# EAGLE library part L3GD20 (library zortness)
L3GD20 3-Axis Gyro I2C or SPI communication DigKey <http://www.digikey.com/product-detail/en/L3GD20TR/497-12081-1-ND/2793125>
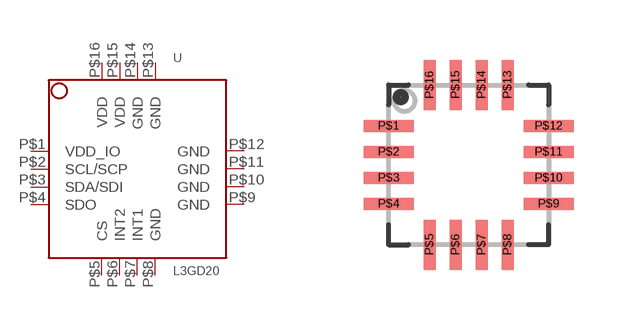
[diagram p2: symbol with the pads of LGA16-4X4; footprint LGA16-4X4]

Designator prefix U

## L3GD20  [LGA16-4X4]
P$1  VDD_IO  pwr
P$2  SCL/SCP
P$3  SDA/SDI
P$4  SDO
P$5  CS  in
P$6  INT2
P$7  INT1
P$8  GND  pwr
P$9  GND  pwr
P$10  GND  pwr
P$11  GND  pwr
P$12  GND  pwr
P$13  GND  pwr
P$14  GND  pwr
P$15  VDD  pwr
P$16  VDD  pwr

## Footprint LGA16-4X4 (pad centres in mm)
16 Terminal LGA in a 4mm x 4mm package
smd 1.25 x 0.3: P$1 -2,0.975; P$2 -2,0.325; P$3 -2,-0.325; P$4 -2,-0.975; P$9 2,-0.975; P$10 2,-0.325; P$11 2,0.325; P$12 2,0.975
smd 0.3 x 1.25: P$5 -0.975,-2; P$6 -0.325,-2; P$7 0.325,-2; P$8 0.975,-2; P$13 0.975,2; P$14 0.325,2; P$15 -0.325,2; P$16 -0.975,2